# Altium footprint library PCBLIB2.PcbLib: 63 footprints (part 3 of 4)
Each footprint in its own frame and in the unit in brackets; x right, y up, seen from the top. Pads: shape width x height; smd on the part's side, far side on the other; paste and mask are expansions set on the pad; w line width, h text height; cw(c..) or ccw(c..) is an arc to the next point about the centre after c.
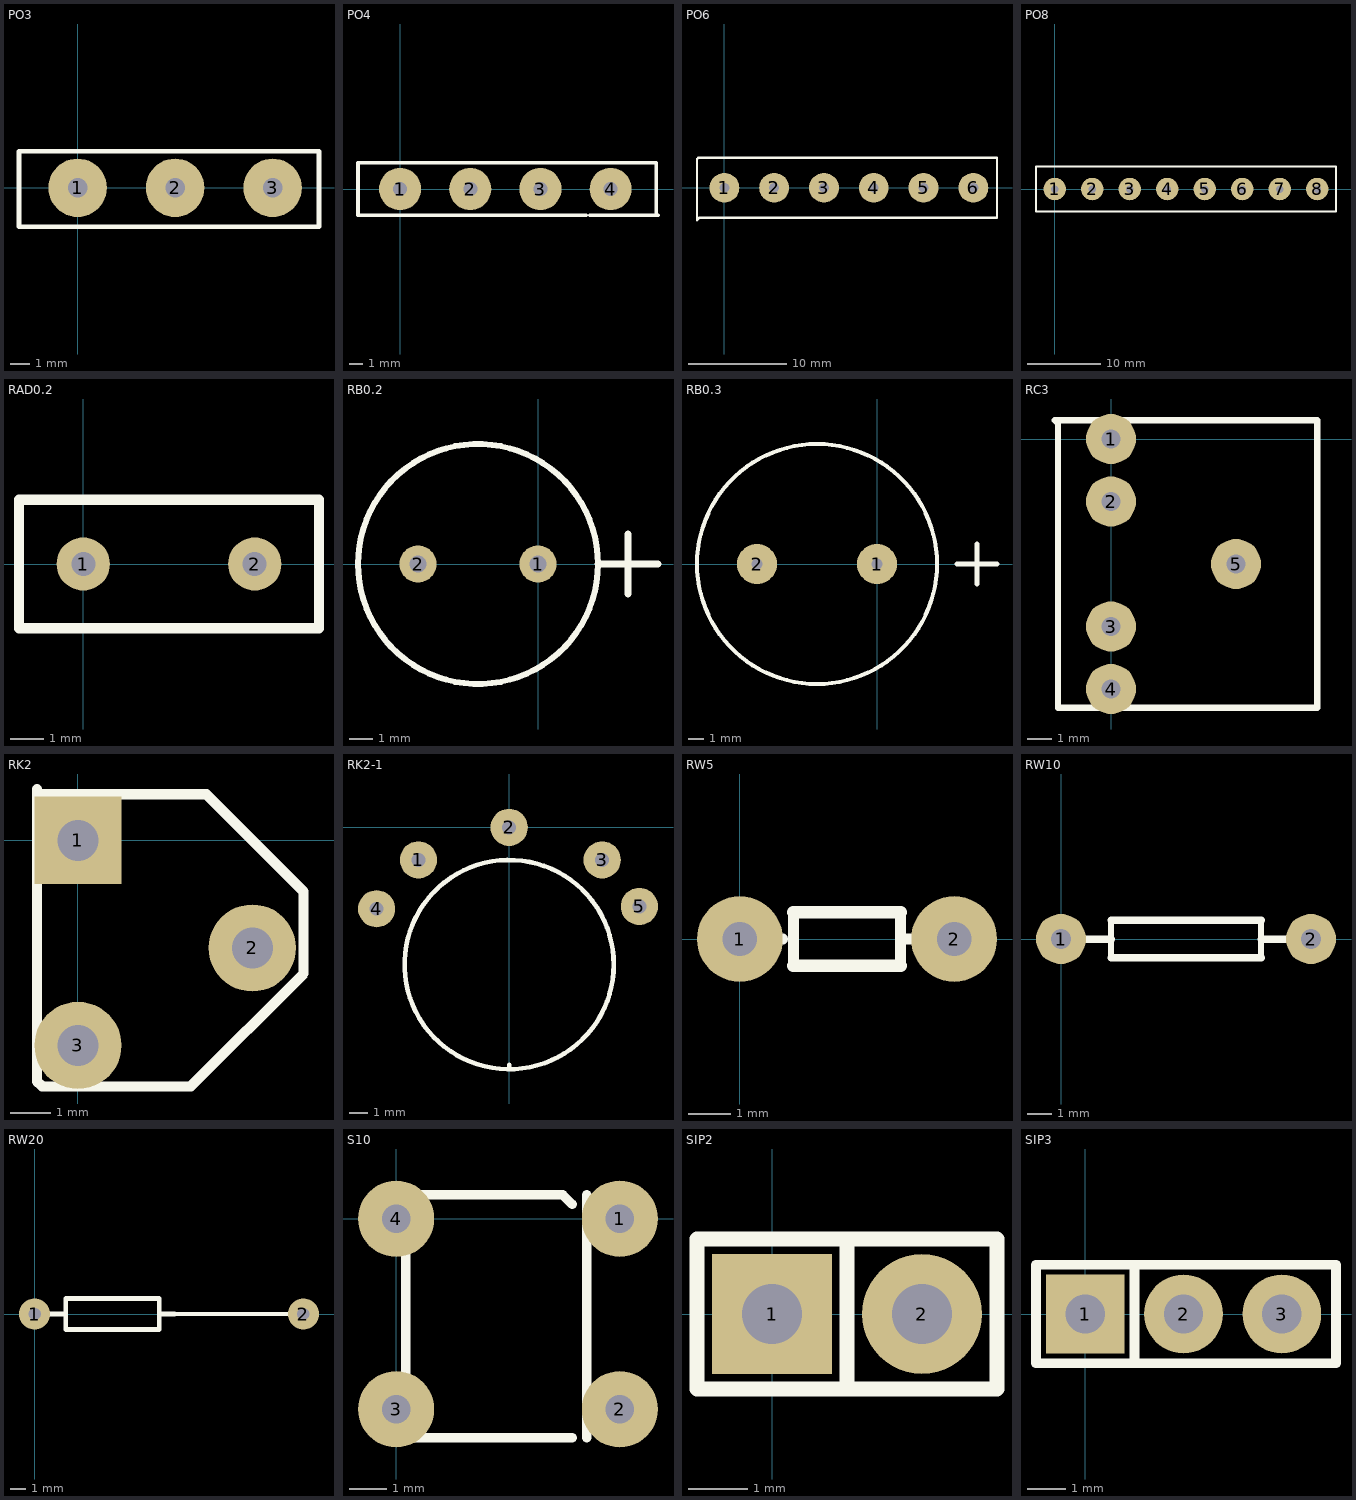
[diagram p2: the footprints below, top view; thin cyan lines are the x and y axes]

## PO3 [mil]
pads (3):
  round 120 hole 40: 1(0,0) 2(200,0) 3(400,0)
TopOverlay:
  lines w10: -120,-80 -120,-70 -120,75 495,75 495,-80 -120,-80

## PO4 [mil]
pads (4):
  round 120 hole 40: 1(0,0) 2(200,0) 3(400,0) 4(600,0)
TopOverlay:
  lines w10: -120,-75 530,-75 ; -120,-70 -120,75 540,75 730,75 730,-70 ; 540,-75 735,-75

## PO6 [mil]
pads (6):
  round 120 hole 40: 1(0,0) 2(200,0) 3(400,0) 4(600,0) 5(800,0) 6(1000,0)
TopOverlay:
  lines w10: -110,-130 -100,-120 1095,-120 1095,120 0,120 -105,120 -110,115 -110,-130

## PO8 [mil]
pads (8):
  round 120 hole 40: 1(0,0) 2(200,0) 3(400,0) 4(600,0) 5(800,0) 6(1000,0) 7(1200,0) 8(1400,0)
TopOverlay:
  lines w10: -100,-120 1500,-120 1500,120 -100,120 -100,0 -100,-120

## RAD0.2 [mil]
pads (2):
  round 62 hole 28: 1(0,0) 2(200,0)
TopOverlay:
  lines w12: -75,-75 275,-75 275,75 -75,75 -75,-75

## RB0.2 [mil]
pads (2):
  round 62 hole 28: 1(0,0) 2(-200,0)
TopOverlay:
  circle w10: c-100,0 r200
  lines w12: 100,0 200,0 ; 150,-50 150,50

## RB0.3 [mil]
pads (2):
  round 100 hole 28: 1(0,0) 2(-300,0)
TopOverlay:
  circle w10: c-150,0 r300
  lines w12: 200,0 300,0 ; 250,-50 250,50

## RC3 [mil]
pads (5):
  round 80 hole 30: 1(0,0) 2(0,-100) 3(0,-300) 4(0,-400) 5(200,-200)
TopOverlay:
  lines w10: -90,30 330,30 330,-430 -85,-430 -85,25 -90,30

## RK2 [mil]
pads (3):
  rect 85x85 hole 40: 1(0,0)
  round 85 hole 40: 2(170,-105) 3(0,-200)
TopOverlay:
  lines w10: -40,45 125,45 220,-50 220,-130 110,-240 -35,-240 -40,-235 -40,50

## RK2-1 [mil]
pads (5):
  round 80 hole 30: 1(-195,-70) 2(0,0) 3(200,-70) 4(-285,-175) 5(280,-170)
TopOverlay:
  circle w10: c0,-295 r225
  lines w10: 0,-515 0,-510

## RW5 [mil]
pads (2):
  round 80 hole 32: 1(0,0) 2(200,0)
TopOverlay:
  lines w10: 0,0 40,0 ; 50,-25 50,25 ; 150,-25 150,25 ; 155,0 200,0
  lines w12: 50,-25 150,-25 ; 50,25 150,25

## RW10 [mil]
pads (2):
  round 80 hole 32: 1(0,0) 2(400,0)
TopOverlay:
  lines w10: 80,-30 80,30 ; 320,-30 320,30
  lines w12: 40,0 80,0 ; 80,-30 320,-30 ; 80,30 320,30 ; 320,0 360,0

## RW20 [mil]
pads (2):
  round 80 hole 32: 1(0,0) 2(690,0)
TopOverlay:
  lines w10: 360,0 690,0
  lines w12: 40,0 80,0 ; 320,0 360,0 ; 80,-40 80,40 320,40 320,-40 80,-40

## S10 [mil]
pads (4):
  round 80 hole 30: 1(235,0) 2(235,-200) 3(0,-200) 4(0,0)
TopOverlay:
  lines w10: 185,-230 10,-230 10,25 175,25 185,15 ; 200,-230 200,25

## SIP2 [mil]
pads (2):
  rect 80x80 hole 40: 1(0,0)
  round 80 hole 40: 2(100,0)
TopOverlay:
  lines w10: 50,-50 50,50 ; -50,-50 -50,50 150,50 150,-50 -50,-50

## SIP3 [mil]
pads (3):
  rect 80x80 hole 40: 1(0,0)
  round 80 hole 40: 2(100,0) 3(200,0)
TopOverlay:
  lines w10: 50,-50 50,50 ; -50,-50 -50,50 255,50 255,-50 -50,-50